# Altium footprint library Diodes.PcbLib: 13 footprints
Each footprint in its own frame and in the unit in brackets; x right, y up, seen from the top. Pads: shape width x height; smd on the part's side, far side on the other; paste and mask are expansions set on the pad; w line width, h text height; cw(c..) or ccw(c..) is an arc to the next point about the centre after c.
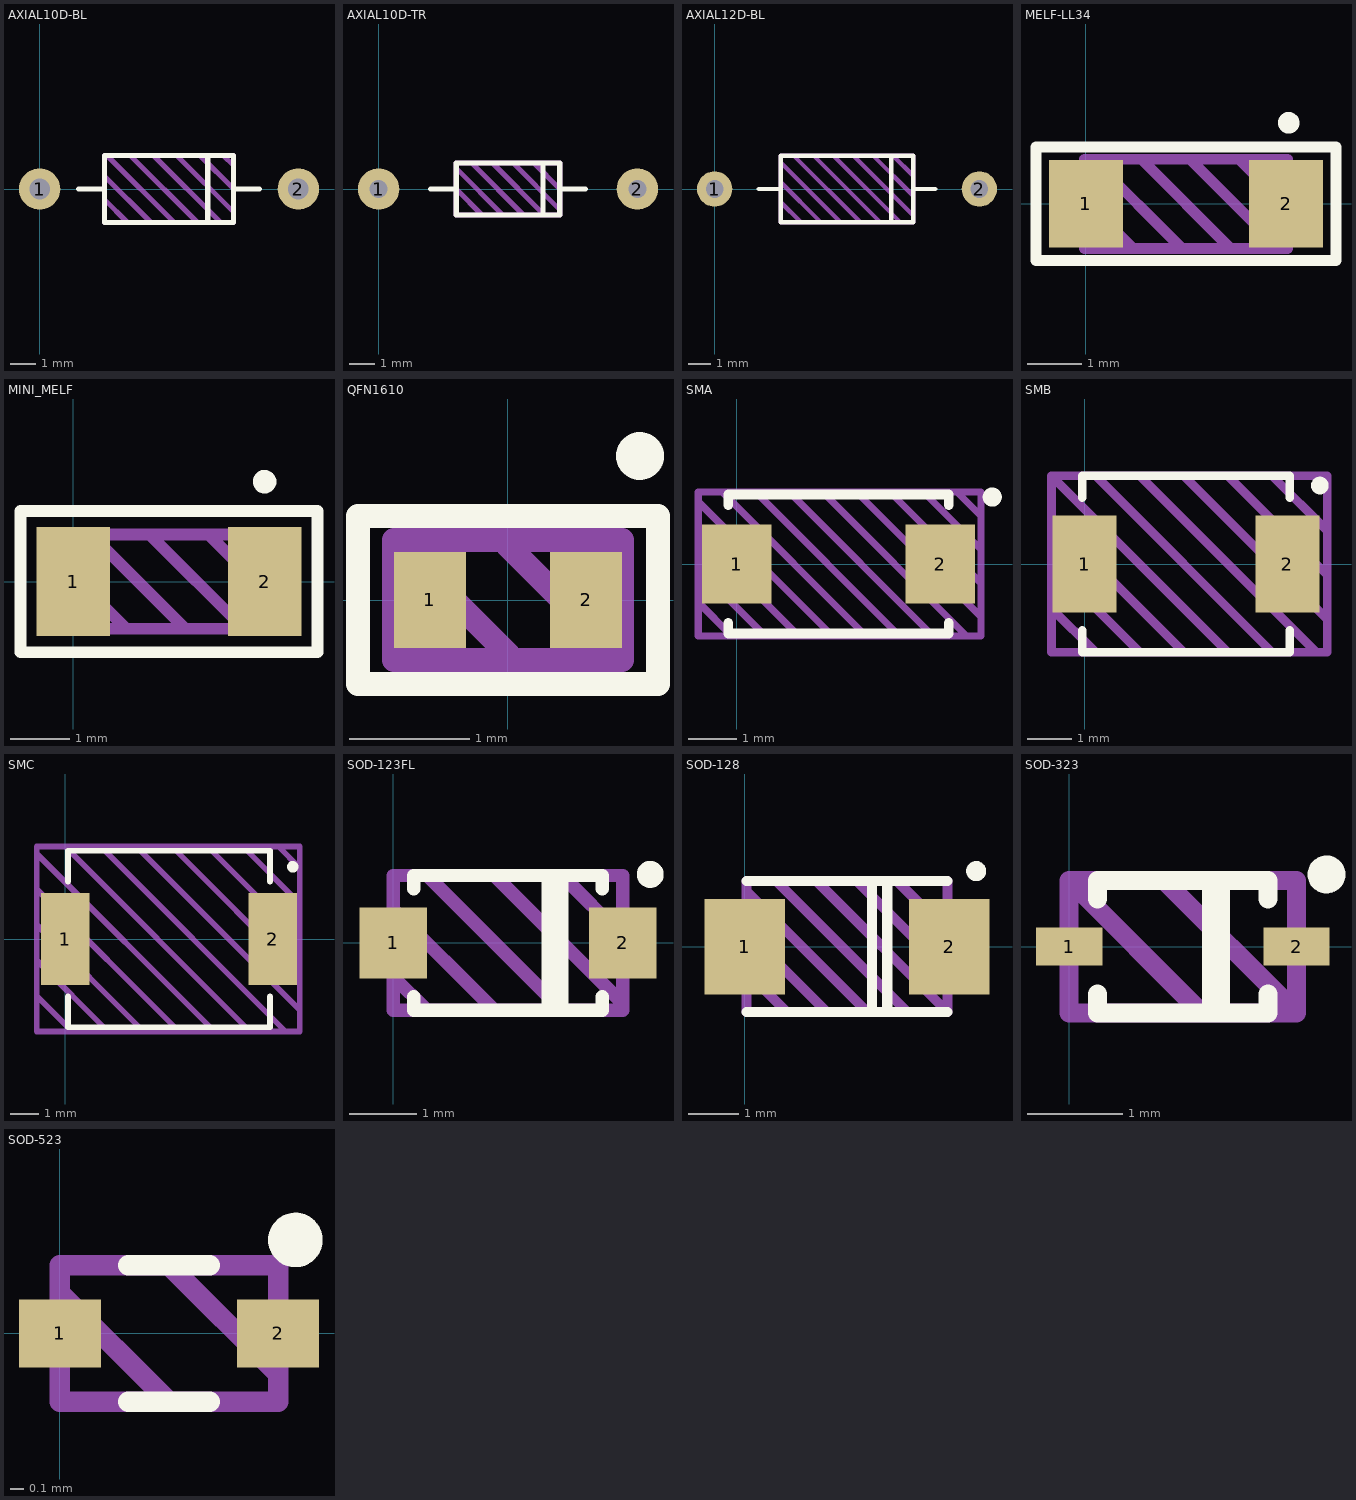
[diagram p0: the footprints below, top view; thin cyan lines are the x and y axes]

## AXIAL10D-BL [mm]
pads (2):
  round 1.6 hole 0.8: 1(0,0) 2(10,0)
Top Overlay:
  lines w0.2: 1.5,0 2.5,0 ; 6.5,-1.3 6.5,1.3 ; 7.5,0 8.5,0 ; 2.5,-1.3 2.5,1.3 7.5,1.3 7.5,-1.3 2.5,-1.3
Top Draw:
  lines w0.2: 2.5,-0.4 3.4,-1.3 ; 2.5,0.5 4.3,-1.3 ; 2.6,1.3 5.2,-1.3 ; 3.5,1.3 6.1,-1.3 ; 4.4,1.3 7,-1.3 ; 5.3,1.3 7.5,-0.9 ; 6.2,1.3 7.5,0 ; 7.1,1.3 7.5,0.9 ; 2.5,-1.3 2.5,1.3 7.5,1.3 7.5,-1.3 2.5,-1.3
Top Info:
  text "'.Comment'" at 1.814,-2.437 h0.75
3D body "AXIAL10D-BL.stp": height 2.74, standoff -2.6, extent -0.25,-1.25 10.25,1.25

## AXIAL10D-TR [mm]
pads (2):
  round 1.6 hole 0.7: 1(0,-0.001) 2(10,0)
Top Overlay:
  lines w0.2: 2,0 3,0 ; 6.35,-1 6.35,1 ; 7,0 8,0 ; 3,-1 7,-1 7,1 3,1 3,-1
Top Draw:
  lines w0.2: 3,0 4,-1 ; 3,0.8 4.8,-1 ; 3.6,1 5.6,-1 ; 4.4,1 6.4,-1 ; 5.2,1 7,-0.8 ; 6,1 7,0 ; 3,-1 3,1 7,1 7,-1 3,-1
Top Info:
  text "'.Comment'" at 1.814,-2.137 h0.75
3D body "AXIAL10D-TR-P1.stp": height 2.25, standoff -2.6, extent -0.248,-0.993 10.25,0.993
3D body "AXIAL10D-TR-P2.stp": height 2.25, standoff 0.25, extent 3.001,-1 6.3,0.985

## AXIAL12D-BL [mm]
pads (2):
  round 1.6 hole 0.8: 1(0,0) 2(12,0)
Top Overlay:
  lines w0.2: 2,0 3,0 ; 8,-1.5 8,1.5 ; 9,0 10,0 ; 3,-1.5 3,1.5 9,1.5 9,-1.5 3,-1.5
Top Draw:
  lines w0.2: 3,-0.6 3.9,-1.5 ; 3,0.3 4.8,-1.5 ; 3,1.2 5.7,-1.5 ; 3.6,1.5 6.6,-1.5 ; 4.5,1.5 7.5,-1.5 ; 5.4,1.5 8.4,-1.5 ; 6.3,1.5 9,-1.2 ; 7.2,1.5 9,-0.3 ; 8.1,1.5 9,0.6 ; 3,-1.5 3,1.5 9,1.5 9,-1.5 3,-1.5
Top Info:
  text "'.Comment'" at 2.814,-2.637 h0.75
3D body "AXIAL12D-BL.stp": height 3.24, standoff -2.6, extent -0.3,-1.5 12.3,1.5

## MELF-LL34 [mm]
pads (2):
  rect 1.37x1.62 smd: 1(0,0) 2(3.7,0)
Top Overlay:
  circle w0.2: c3.75,1.5 r0.1
  lines w0.2: -0.925,-1.05 -0.925,1.05 4.625,1.05 4.625,-1.05 -0.925,-1.05
Top Draw:
  lines w0.2: -0.025,0.075 0.875,-0.825 ; 0.125,0.825 1.775,-0.825 ; 1.025,0.825 2.675,-0.825 ; 1.925,0.825 3.575,-0.825 ; 2.825,0.825 3.725,-0.075 ; -0.025,-0.825 3.725,-0.825 3.725,0.825 -0.025,0.825 -0.025,-0.825
Top Info:
  text "'.Comment'" at -0.274,-1.842 h0.5
3D body "LL34_Zener.stp": height 1.6, standoff 0.01, extent 0,-0.797 3.7,0.797

## MINI_MELF [mm] "DO-213AA, SOD-80"
height 1.7
pads (2):
  rect 1.25x1.85 smd: 1(0,0) 2(3.25,0)
Top Overlay:
  circle w0.2: c3.25,1.7 r0.1
  lines w0.2: -0.9,-1.2 -0.9,1.2 4.15,1.2 4.15,-1.2 -0.9,-1.2
Top Draw:
  lines w0.2: -0.2,0.3 0.9,-0.8 ; 0.3,0.8 1.9,-0.8 ; 1.3,0.8 2.9,-0.8 ; 2.3,0.8 3.4,-0.3 ; -0.2,-0.8 3.4,-0.8 3.4,0.8 -0.2,0.8 -0.2,-0.8
Top Info:
  text "'.Comment'" at -0.424,-1.992 h0.5
3D body "MiniMelfDiode.stp": height 1.63, standoff 0.04, extent -0.225,-0.797 3.475,0.797

## QFN1610 [mm]
pads (2):
  rect 0.6x0.8 smd: 1(-0.65,0) 2(0.65,0)
Top Overlay:
  circle w0.2: c1.1,1.2 r0.1
  lines w0.2: -1.25,-0.7 -0.75,-0.7 1.25,-0.7 1.25,0.1 1.25,0.7 -1.25,0.7 -1.25,-0.7
Top Draw:
  lines w0.2: 0,-0.45 -0.95,0.5 ; 0,0.5 0,0.45 0.95,-0.5 ; 0.95,-0.45 0.95,-0.5 ; -0.95,0.5 -0.95,-0.5 0.95,-0.5 ; -0.95,0.5 0.95,0.5 0.95,-0.5
Top Info:
  text "'.Comment'" at -2.124,-1.492 h0.5
3D body: height 0.6, standoff 0, extent -0.95,-0.5 0.95,0.5

## SMA [mm] "DO-214AC"
pads (2):
  rect 1.45x1.65 smd: 1(0,0) 2(4.25,0)
Top Overlay:
  circle w0.2: c5.334,1.397 r0.1
  lines w0.2: -0.175,-1.225 -0.175,-1.45 4.425,-1.45 4.425,-1.225 ; -0.175,1.225 -0.175,1.45 4.425,1.45 4.425,1.225
Top Draw:
  lines w0.15: -0.8,-0.8 -0.1,-1.5 0,-1.5 ; -0.8,-0.1 0.6,-1.5 1,-1.5 ; -0.8,0.6 1.3,-1.5 1.6,-1.5 ; -0.8,1.3 2,-1.5 2.1,-1.5 ; -0.4,1.5 -0.3,1.5 2.7,-1.5 ; 0,1.5 0.4,1.5 3.4,-1.5 ; 0.6,1.5 1.1,1.5 4.1,-1.5 ; 1.4,1.5 1.8,1.5 4.8,-1.5 ; 2.4,1.5 2.5,1.5 5.1,-1.1 ; 3.2,1.5 5.1,-0.4 5.1,-0.5 ; 3.9,1.5 5.1,0.3 5.1,0 ; 4.6,1.5 5.1,1 5.1,0.8 ; -0.8,-1.5 -0.8,1.5 5.1,1.5 5.1,-1.5 -0.8,-1.5
Top Info:
  text "'.Comment'" at -0.866,-2.517 h0.75
3D body "SMAA.step": height 2.1, standoff 0, extent -0.395,-1.45 4.645,1.45

## SMB [mm] "DO-214AA"
pads (2):
  rect 1.45x2.2 smd: 1(0,0) 2(4.6,0)
Top Overlay:
  circle w0.2: c5.334,1.778 r0.1
  lines w0.2: -0.05,-1.5 -0.05,-2 4.65,-2 4.65,-1.5 ; -0.05,1.5 -0.05,2 4.65,2 4.65,1.5
Top Draw:
  lines w0.2: -0.75,-1 0.25,-2 0.5,-2 ; -0.75,0 1.25,-2 1.5,-2 ; -0.75,1 2.25,-2 2.5,-2 ; 0.25,2 4.25,-2 4.5,-2 ; 1.25,2 5.25,-2 ; 2.25,2 5.5,-1.25 ; 3.25,2 5.5,-0.25 ; 3.5,-2 3.25,-2 -0.75,2 ; 4.25,2 5.5,0.75 ; -0.75,2 -0.75,-2 5.5,-2 5.5,2 -0.75,2
Top Info:
  text "'.Comment'" at -0.739,-3.025 h0.75
3D body "SODFL127P600-8N.step": height 2.2, standoff 0, extent -0.375,-1.975 4.975,1.975

## SMC [mm] "DO-214AB"
pads (2):
  rect 1.7x3.25 smd: 1(0,0) 2(7.3,0)
Top Overlay:
  circle w0.2: c8.001,2.54 r0.1
  lines w0.2: 0.1,-2.025 0.1,-3.1 7.2,-3.1 7.2,-2.025 ; 0.1,2.025 0.1,3.1 7.2,3.1 7.2,2.025
Top Draw:
  lines w0.2: -1,-2 0.25,-3.25 0.75,-3.25 ; -1,-0.75 1.5,-3.25 1.75,-3.25 ; -1,0.5 2.75,-3.25 ; -1,1.75 4,-3.25 ; -1,3 5.25,-3.25 ; 0,3.25 6.5,-3.25 ; 1.25,3.25 7.75,-3.25 ; 2.5,3.25 8.25,-2.5 ; 3.75,3.25 8.25,-1.25 ; 5,3.25 8.25,0 ; 6.25,3.25 8.25,1.25 ; 7.5,3.25 8.25,2.5 ; -1,-3.25 8.25,-3.25 8.25,3.25 -1,3.25 -1,-3.25
Top Info:
  text "'.Comment'" at -0.943,-4.626 h1
3D body "SODFL127P600-8N.step": height 2.5, standoff 0, extent -0.325,-3.1 7.625,3.1

## SOD-123FL [mm]
height 1.2
pads (2):
  rect 1x1.05 smd: 1(0,0) 2(3.4,0)
Top Overlay:
  circle w0.2: c3.81,1.016 r0.1
  lines w0.2: 0.3,-0.8 0.3,-1 3.1,-1 3.1,-0.8 ; 0.3,0.8 0.3,1 3.1,1 3.1,0.8 ; 2.3,-1 2.3,1 ; 2.4,-1 2.4,1 2.6,1 ; 2.5,1 2.5,-1 2.6,-1
Top Draw:
  lines w0.2: 0,-0.5 0.5,-1 0.8,-1 ; 0,0.5 1.5,-1 1.8,-1 ; 0.5,1 2.5,-1 2.7,-1 ; 1,-1 1.3,-1 ; 1.5,1 3.4,-0.9 ; 2,-1 2.3,-1 ; 2.5,1 3.4,0.1 3.4,-0.1 ; 3,-1 3.1,-1 ; 3.4,-0.9 3.4,-0.9 ; 0,-1 3.4,-1 3.4,1 0,1 0,-1
Top Info:
  text "'.Comment'" at -0.408,-1.678 h0.5
3D body "SOD-123FL.step": height 1.2, standoff 0, extent -0.175,-0.95 3.575,0.95

## SOD-128 [mm]
height 1.1
pads (2):
  rect 1.6x1.9 smd: 1(0,0) 2(4.064,0)
Top Overlay:
  circle w0.2: c4.6,1.5 r0.1
  lines w0.2: 0.032,-1.3 4.032,-1.3 ; 0.032,1.3 4.032,1.3 ; 2.532,-1.3 2.532,1.3 ; 2.832,-1.3 2.832,1.3
Top Draw:
  lines w0.2: 0.032,-0.5 0.832,-1.3 ; 0.032,0.3 1.632,-1.3 ; 0.032,1.1 2.432,-1.3 ; 0.632,1.3 3.232,-1.3 ; 1.432,1.3 4.032,-1.3 ; 2.232,1.3 4.032,-0.5 ; 3.032,1.3 4.032,0.3 ; 4.032,-1.3 0.032,-1.3 0.032,1.3 4.032,1.3 4.032,-1.3
Top Info:
  text "'.Comment'" at -1.154,-2.437 h0.75
3D body "SOD-128.step": height 1.1, standoff 0, extent -0.318,-1.35 4.382,1.35

## SOD-323 [mm]
height 0.7
pads (2):
  rect 0.7x0.4 smd: 1(0,0) 2(2.4,0)
Top Overlay:
  circle w0.2: c2.716,0.762 r0.1
  lines w0.2: 0.3,-0.502 0.3,-0.7 2.1,-0.7 2.1,-0.502 ; 0.3,0.502 0.3,0.7 2.1,0.7 2.1,0.502 ; 1.5,-0.7 1.5,0.7 ; 1.6,-0.7 1.6,0.7
Top Draw:
  lines w0.2: 1,0.7 2.4,-0.7 ; 1.4,-0.7 0,0.7 ; 0,0.7 0,-0.7 2.4,-0.7 ; 0,0.7 2.4,0.7 2.4,-0.7
Top Info:
  text "'.Comment'" at -0.924,-1.492 h0.5
3D body "SOD-323.step": height 0.72, standoff 0.02, extent 0,-0.675 2.4,0.675

## SOD-523 [mm] "SSMini2, SC-79"
pads (2):
  rect 0.6x0.5 smd: 1(0,0) 2(1.6,0)
Top Overlay:
  circle w0.2: c1.727,0.686 r0.1
  lines w0.15: 0.5,-0.5 1.1,-0.5 ; 0.5,0.5 1.1,0.5
Top Draw:
  lines w0.15: 0,0.3 0.8,-0.5 ; 0.8,0.5 1.6,-0.3 ; 0,-0.5 0,0.5 1.6,0.5 1.6,-0.5 0,-0.5
Top Info:
  text "'.Comment'" at -1.324,-1.292 h0.5
3D body "SOD-523.step": height 0.6, standoff 0, extent 0,-0.425 1.6,0.425